# EAGLE library part TLC5926I (library wicked-device)
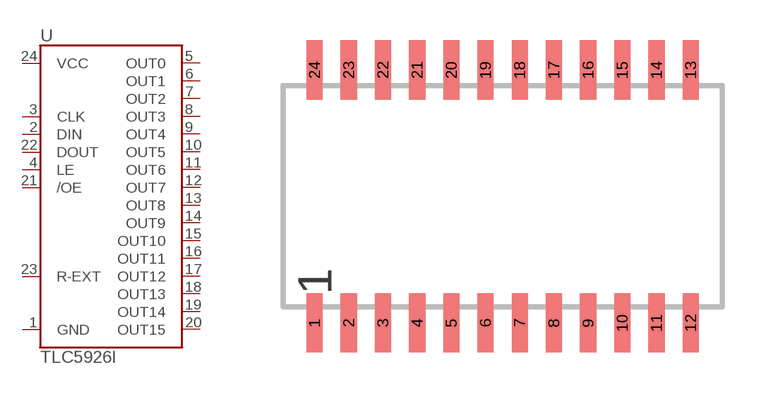
[diagram p9: symbol with the pads of SOIC24; footprint SOIC24]

Designator prefix -

## TLC5926IDWR  [SOIC24]
1  GND
2  DIN
3  CLK
4  LE
5  OUT0
6  OUT1
7  OUT2
8  OUT3
9  OUT4
10  OUT5
11  OUT6
12  OUT7
13  OUT8
14  OUT9
15  OUT10
16  OUT11
17  OUT12
18  OUT13
19  OUT14
20  OUT15
21  /OE
22  DOUT
23  R-EXT
24  VCC

## Footprint SOIC24 (pad centres in mm)
smd 0.6 x 2.2: 1 -5.715,-4.7; 2 -4.445,-4.7; 3 -3.175,-4.7; 4 -1.905,-4.7; 5 -0.635,-4.7; 6 0.635,-4.7; 7 1.905,-4.7; 8 3.175,-4.7; 9 4.445,-4.7; 10 5.715,-4.7; 11 6.985,-4.7; 12 8.255,-4.7; 13 8.255,4.7; 14 6.985,4.7; 15 5.715,4.7; 16 4.445,4.7; 17 3.175,4.7; 18 1.905,4.7; 19 0.635,4.7; 20 -0.635,4.7; 21 -1.905,4.7; 22 -3.175,4.7; 23 -4.445,4.7; 24 -5.715,4.7